# Altium footprint library PcbLib_USB_2.0.PcbLib: 2 footprints
Each footprint in its own frame and in the unit in brackets; x right, y up, seen from the top. Pads: shape width x height; smd on the part's side, far side on the other; paste and mask are expansions set on the pad; w line width, h text height; cw(c..) or ccw(c..) is an arc to the next point about the centre after c.
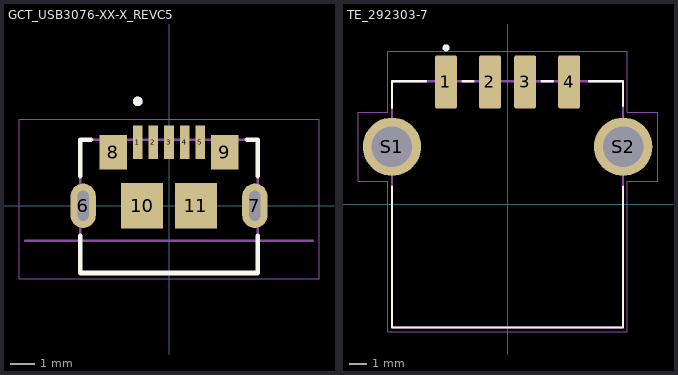
[diagram p0: the footprints below, top view; thin cyan lines are the x and y axes]

## GCT_USB3076-XX-X_REVC5 [mm]
height 2.66
pads (11):
  rect 0.4x1.4 smd: 1(-1.3,2.65) 2(-0.65,2.65) 3(0,2.65) 4(0.65,2.65) 5(1.3,2.65)
  oval 1.05x1.85 hole 0.45 slot 1.252 at 90 deg: 6(-3.575,0) 7(3.575,0)
  rect 1.15x1.45 smd: 8(-2.32,2.23) 9(2.32,2.23)
  rect 1.75x1.9 smd: 10(-1.125,0) 11(1.125,0)
Top Overlay:
  circle w0.2: c-1.3,4.35 r0.1
  lines w0.2: -3.7,-1.245 -3.7,-2.8 3.7,-2.8 3.7,-1.245 ; -3.7,1.245 -3.7,2.75 -3.245,2.75 ; 3.245,2.75 3.7,2.75 3.7,1.245
Mechanical 13:
  circle w0.2: c-1.3,4.35 r0.1
  lines w0.1: -6,-1.45 6,-1.45 ; -3.7,-2.8 -3.7,2.75 3.7,2.75 3.7,-2.8 -3.7,-2.8
Mechanical 15:
  lines w0.05: -6.25,-3.05 6.25,-3.05 6.25,3.6 -6.25,3.6 -6.25,-3.05
3D body "step_temp.STEP": height 2.66, standoff -1, extent -3.7,-2.775 3.7,2.775

## TE_292303-7 [mm]
pads (6):
  rrect15% 1.25x3 smd: 1(-3.5,6.96) 2(-1,6.96) 3(1,6.96) 4(3.5,6.96)
  round 3.316 hole 2.3: S1(-6.57,3.28) S2(6.57,3.28)
Top Overlay:
  circle w0.2: c-3.5,8.903 r0.1
  lines w0.127: -6.565,1 -6.565,-7 6.565,-7 6.565,1 ; -6.565,5.5 -6.565,7 -4.635,7 ; -2.565,7 -1.935,7 ; 1.935,7 2.565,7 ; 4.635,7 6.565,7 6.565,5.6
Mechanical 13:
  lines w0.127: -6.565,-7 -6.565,7 6.565,7 6.565,-7 -6.565,-7
Mechanical 15:
  lines w0.05: -8.5,1.33 -6.815,1.33 -6.815,-7.25 6.815,-7.25 6.815,1.33 8.55,1.33 8.55,5.23 6.815,5.23 6.815,8.71 -6.815,8.71 -6.815,5.23 -8.5,5.23 -8.5,1.33
3D body "292303-7.stp": height 7.43, standoff -3.93, extent -8.117,-6.985 8.117,8.175